# Altium schematic symbol library Vishay_Semiconductor_SMAJ58A_E3_61.SchLib: 1 symbol
Pins are listed as number, name and electrical type; pins without a type are passive.

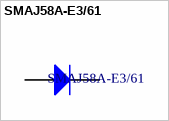
[diagram p0: symbol SMAJ58A-E3/61]

## SMAJ58A-E3/61
designator ?
Transient Voltage Suppressor, 6.40 to 231 V, 58 V Stand-off Voltage, Uni-Directional, -55 to 155 degC, 2-pin DO-214AC, Pb-Free, Tape and Reel; Manufacturer: Vishay Semiconductor; IFSM: 40 A; PPPM (W): 400, 300; VWM (V): 58; VBR Uni-Directional (V): 6.4 to 231; ID (uA): 1; ComponentLink1Description: Manufacturer URL; ComponentLink2Description: Datasheet; ComponentLink3Description: Package Specification; ComponentLink3URL: http://www.vishay.com/docs/88390/smaj50a.pdf; DatasheetVersion: 12/8/2013; ComponentLink1URL: http://www.vishay.com/; Operating Junction and Storage Temperature Range: -55 to 150 degC; ComponentLink2URL: http://www.vishay.com/docs/88390/smaj50a.pdf; Packing: Tape and Reel; PartNumber: SMAJ58A-E3/61; PackageReference: DO-214AC-2; PackageDescription: 2-Pin DO-214AC (SMA), Body 4.245 x 2.665 mm; Mounting Technology: Surface Mount; RoHS: TRUE
footprint VISH-DO-214AC-2_M
footprint VISH-DO-214AC-2_N
footprint VISH-DO-214AC-2_L
pins: 1 K, 2 A